# EAGLE library part S1G10_JUMP (library LIC_ALL-00)
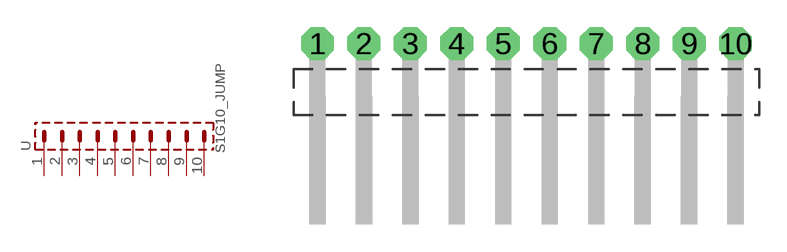
[diagram p3: symbol with the pads of S1G6_JU; footprint S1G6_JU]

Designator prefix -

## S1G10_JUMP  [S1G6_JU]
1  1  pas
2  2  pas
3  3  pas
4  4  pas
5  5  pas
6  6  pas
7  7  pas
8  8  pas
9  9  pas
10  10  pas

## Footprint S1G6_JU (pad centres in mm)
drill 0.9 pad 1.778 octagon: 1 -22.86,0; 2 -20.32,0; 3 -17.78,0; 4 -15.24,0; 5 -12.7,0; 6 -10.16,0; 7 -7.62,0; 8 -5.08,0; 9 -2.54,0; 10 0,0